# EAGLE library part IC_LED_MAX6955_DIP (library mylib_20130829)
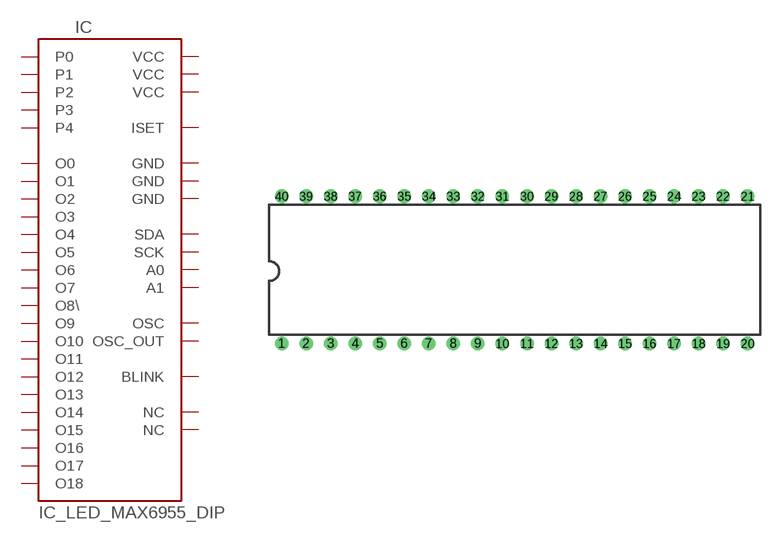
[diagram p90: symbol with the pads of IC_SOCKET_DIL_40_600MIL; footprint IC_SOCKET_DIL_40_600MIL]

Designator prefix IC

## IC_LED_MAX6955_DIP  [IC_SOCKET_DIL_40_600MIL]
1  P0
2  P1
3  A0
4  SDA
5  SCK
6  A1
7  O0
8  O1
9  O2
10  O3
11  O4
12  O5
13  O6
14  O7
15  O8\
16  NC  nc
17  GND  pwr
18  GND  pwr
19  ISET  in
20  GND  pwr
21  VCC  pwr
22  OSC  in
23  VCC  pwr
24  VCC  pwr
25  NC  nc
26  O9
27  O10
28  O11
29  O12
30  O13
31  O14
32  O15
33  O16
34  O17
35  O18
36  BLINK  oc
37  OSC_OUT  out
38  P2
39  P3
40  P4

## Footprint IC_SOCKET_DIL_40_600MIL (pad centres in mm)
Dual In Line Package
drill 0.889: 1 -24.13,-7.62; 2 -21.59,-7.62; 3 -19.05,-7.62; 4 -16.51,-7.62; 5 -13.97,-7.62; 6 -11.43,-7.62; 7 -8.89,-7.62; 8 -6.35,-7.62; 9 -3.81,-7.62; 10 -1.27,-7.62; 11 1.27,-7.62; 12 3.81,-7.62; 13 6.35,-7.62; 14 8.89,-7.62; 15 11.43,-7.62; 16 13.97,-7.62; 17 16.51,-7.62; 18 19.05,-7.62; 19 21.59,-7.62; 20 24.13,-7.62; 21 24.13,7.62; 22 21.59,7.62; 23 19.05,7.62; 24 16.51,7.62; 25 13.97,7.62; 26 11.43,7.62; 27 8.89,7.62; 28 6.35,7.62; 29 3.81,7.62; 30 1.27,7.62; 31 -1.27,7.62; 32 -3.81,7.62; 33 -6.35,7.62; 34 -8.89,7.62; 35 -11.43,7.62; 36 -13.97,7.62; 37 -16.51,7.62; 38 -19.05,7.62; 39 -21.59,7.62; 40 -24.13,7.62